# EAGLE library part SWITCH-SPDT (library GFE)
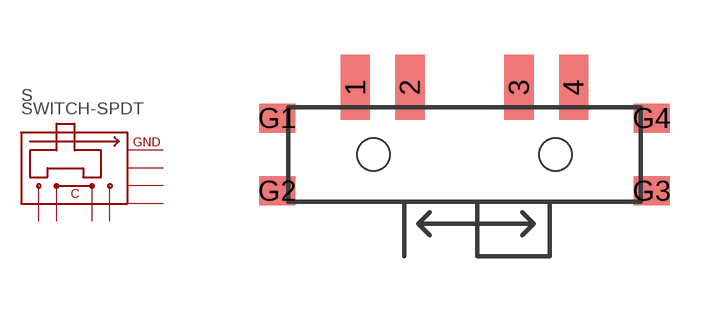
[diagram p9: symbol with the pads of SSSS810201; footprint SSSS810201]

Designator prefix S

## SWITCH-SPDT  [SSSS810201]
1  1
2  2
3  3
4  4
G1  GNDTERMINAL
G2  GNDTERMINAL1
G3  GNDTERMINAL2
G4  GNDTERMINAL3

## Footprint SSSS810201 (pad centres in mm)
smd 0.8 x 1.8: 1 -3,1.85; 2 -1.5,1.85; 3 1.5,1.85; 4 3,1.85
smd 1 x 0.8: G1 -5.15,1; G2 -5.15,-1; G3 5.15,-1; G4 5.15,1
hole 0.9 at -2.5,0
hole 0.9 at 2.5,0